# Altium footprint library dispPCB.PcbLib: 1 footprints
Each footprint in its own frame and in the unit in brackets; x right, y up, seen from the top. Pads: shape width x height; smd on the part's side, far side on the other; paste and mask are expansions set on the pad; w line width, h text height; cw(c..) or ccw(c..) is an arc to the next point about the centre after c.
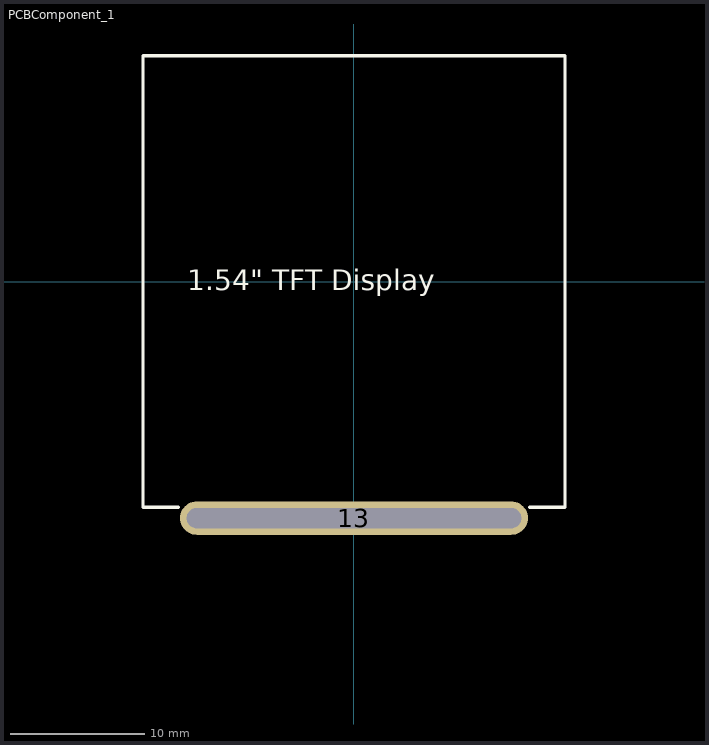
[diagram p0: the footprint, top view; thin cyan lines are the x and y axes]

## PCBComponent_1 [mm]
pads (13):
  rect 0x0 / inner rect 1.524x1.524 / far side rect 0.35x3 all layers, no hole: 1(3.85,-7.35) 2(3.15,-7.35) 3(2.45,-7.35) 4(1.75,-7.35) 5(1.05,-7.35) 6(0.35,-7.35) 7(-0.35,-7.35) 8(-1.05,-7.35) 9(-1.75,-7.35) 10(-2.45,-7.35) 11(-3.15,-7.35) 12(-3.85,-7.35)
  rrect100% 26x2.5 hole 1.5 slot 25 at 0 deg paste-2539.97 mask-2539.97: 13(0,-17.675)
Top Overlay:
  lines w0.254: -13.125,-16.86 -15.76,-16.86 -15.76,16.86 15.76,16.86 15.76,-16.86 13.125,-16.86
  text "1.54\" TFT Display" at -12.442,-0.635 h1.52
Bottom Overlay:
  lines w0.254: -4.725,-9.625 4.725,-9.625 4.725,-5.075 -4.725,-5.075 -4.725,-9.625
  text "DISP IN" at 4.824,-4.296 h1.52
Top Solder:
  region: -0.762,-18.437 -0.762,-16.913 0.762,-16.913 0.762,-18.437
Bottom Solder:
  region: -0.762,-18.437 -0.762,-16.913 0.762,-16.913 0.762,-18.437